# Altium schematic symbol library WR-PHD_Pin Header_2.00mm.SchLib: 63 symbols
Pins are listed as number, name and electrical type; pins without a type are passive.

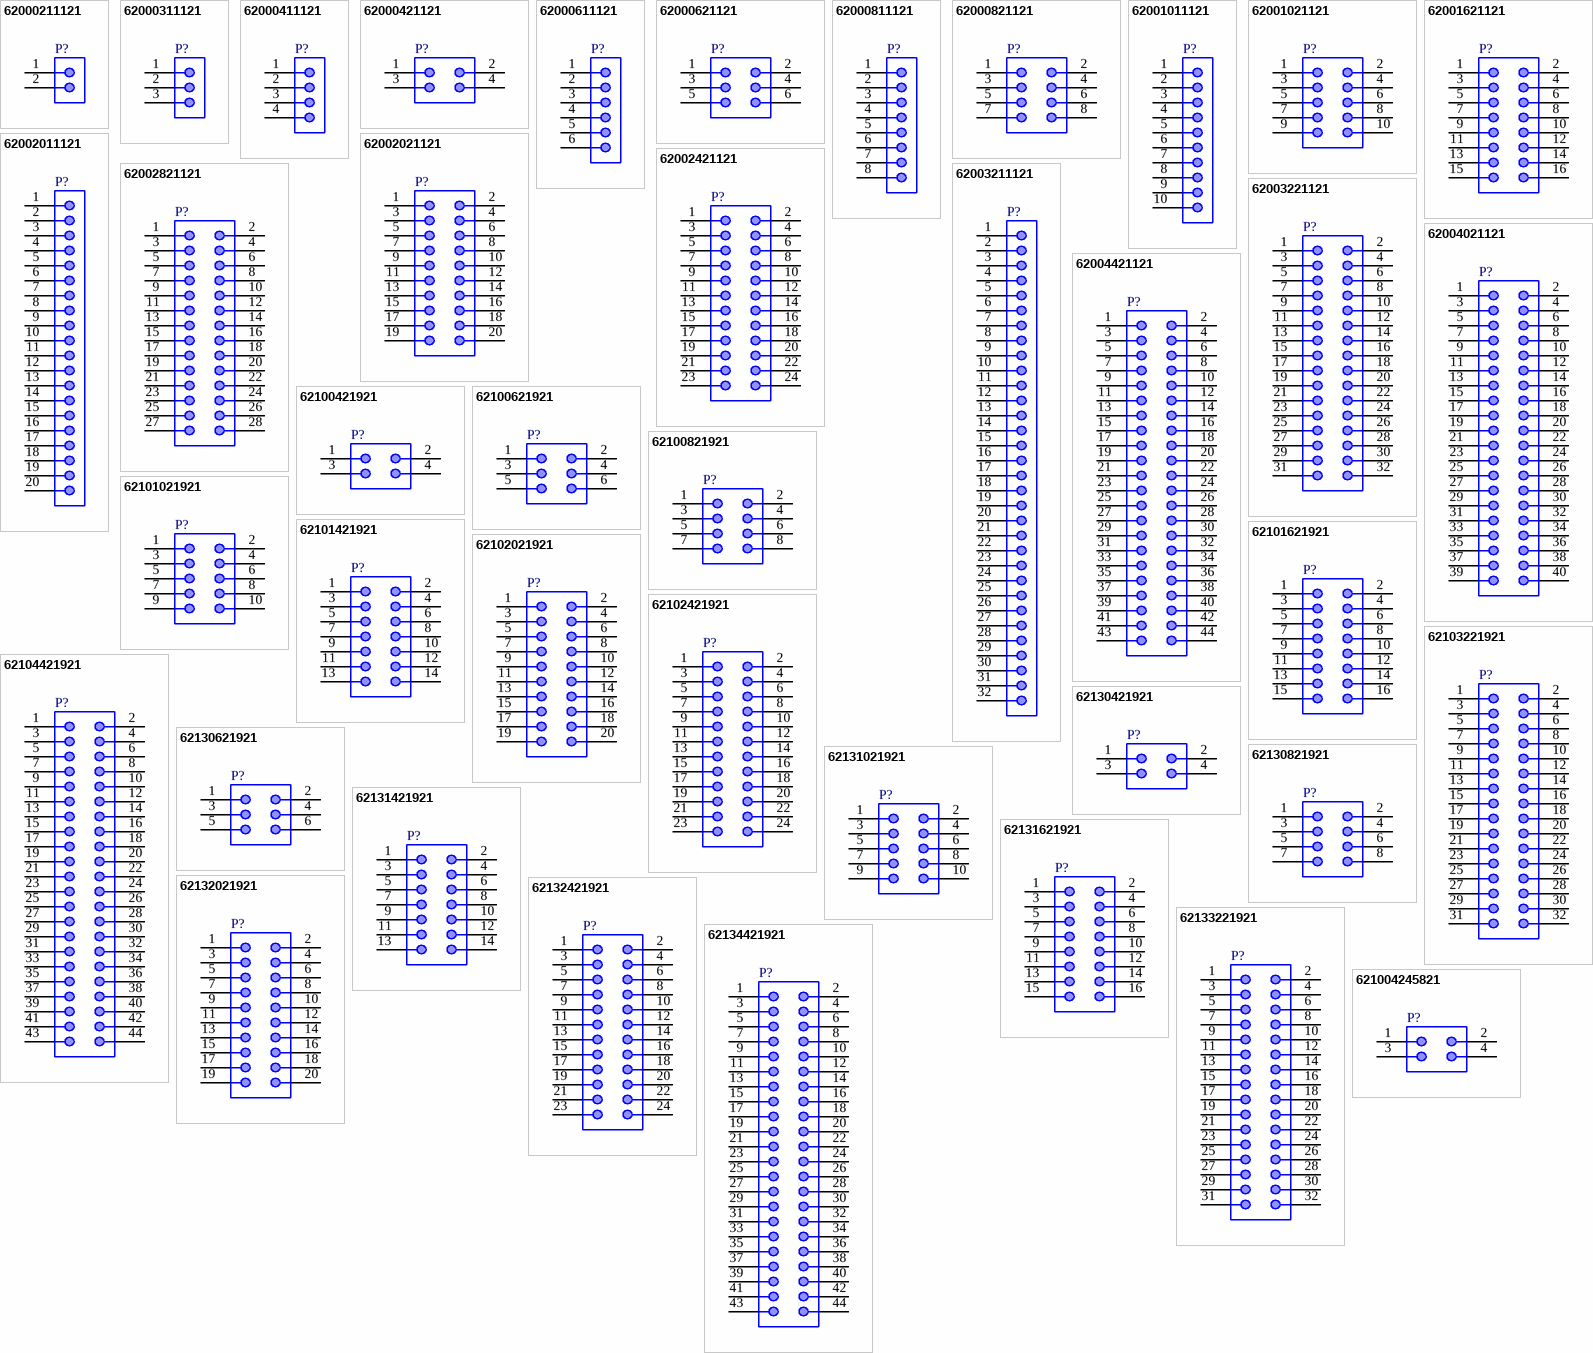
[diagram p0: symbols 62000211121 to 621004245821]

## 62000211121
designator P?
WR-PHD Pin Header, THT, pitch 2mm, Single Row, Vertical, 2p; Manufacturer: Wurth Elektronik; Manufacturer Part Number: 62000211121; Pin Number: 2; Rated Current: 2A; Working Voltage: 200VAC; Withstanding Voltage: 500VAC; Contact Resistance: 20mOhm; ComponentLink1Description: Manufacturer; ComponentLink1URL: http://www.we-online.de; ComponentLink2Description: Datasheet; ComponentLink2URL: https://www.we-online.com/catalog/datasheet/62000211121.pdf; Operating Temperature: -40 to +105degC; Published Date: May 2020; Pitch: 2mm; Mounting Technology: THT; Packaging: Bag; Gender: Pin Header; Row Number: Single; Orientation: Vertical
footprint 62000211121
pins: 1, 2

## 62000311121
designator P?
WR-PHD Pin Header, THT, pitch 2mm, Single Row, Vertical, 3p; Manufacturer: Wurth Elektronik; Manufacturer Part Number: 62000311121; Pin Number: 3; Rated Current: 2A; Working Voltage: 200VAC; Withstanding Voltage: 500VAC; Contact Resistance: 20mOhm; ComponentLink1Description: Manufacturer; ComponentLink1URL: http://www.we-online.de; ComponentLink2Description: Datasheet; ComponentLink2URL: https://www.we-online.com/catalog/datasheet/62000311121.pdf; Operating Temperature: -40 to +105degC; Published Date: May 2020; Pitch: 2mm; Mounting Technology: THT; Packaging: Bag; Gender: Pin Header; Row Number: Single; Orientation: Vertical
footprint 62000311121
pins: 1, 2, 3

## 62000411121
designator P?
WR-PHD Pin Header, THT, pitch 2mm, Single Row, Vertical, 4p; Manufacturer: Wurth Elektronik; Manufacturer Part Number: 62000411121; Pin Number: 4; Rated Current: 2A; Working Voltage: 200VAC; Withstanding Voltage: 500VAC; Contact Resistance: 20mOhm; ComponentLink1Description: Manufacturer; ComponentLink1URL: http://www.we-online.de; ComponentLink2Description: Datasheet; ComponentLink2URL: https://www.we-online.com/catalog/datasheet/62000411121.pdf; Operating Temperature: -40 to +105degC; Published Date: May 2020; Pitch: 2mm; Mounting Technology: THT; Packaging: Bag; Gender: Pin Header; Row Number: Single; Orientation: Vertical
footprint 62000411121
pins: 1, 2, 3, 4

## 62000421121
designator P?
WR-PHD Pin Header, THT, pitch 2mm, Dual Row, Vertical, 4p; Manufacturer: Wurth Elektronik; Manufacturer Part Number: 62000421121; Pin Number: 4; Rated Current: 2A; Working Voltage: 200VAC; Withstanding Voltage: 500VAC; Contact Resistance: 20mOhm; ComponentLink1Description: Manufacturer; ComponentLink1URL: http://www.we-online.de; ComponentLink2Description: Datasheet; ComponentLink2URL: https://www.we-online.com/catalog/datasheet/62000421121.pdf; Operating Temperature: -40 to +105degC; Published Date: May 2020; Pitch: 2mm; Mounting Technology: THT; Packaging: Bag; Gender: Pin Header; Row Number: Dual; Orientation: Vertical
footprint 62000421121
pins: 1, 2, 3, 4

## 62000611121
designator P?
WR-PHD Pin Header, THT, pitch 2mm, Single Row, Vertical, 6p; Manufacturer: Wurth Elektronik; Manufacturer Part Number: 62000611121; Pin Number: 6; Rated Current: 2A; Working Voltage: 200VAC; Withstanding Voltage: 500VAC; Contact Resistance: 20mOhm; ComponentLink1Description: Manufacturer; ComponentLink1URL: http://www.we-online.de; ComponentLink2Description: Datasheet; ComponentLink2URL: https://www.we-online.com/catalog/datasheet/62000611121.pdf; Operating Temperature: -40 to +105degC; Published Date: May 2020; Pitch: 2mm; Mounting Technology: THT; Packaging: Bag; Gender: Pin Header; Row Number: Single; Orientation: Vertical
footprint 62000611121
pins: 1, 2, 3, 4, 5, 6

## 62000621121
designator P?
WR-PHD Pin Header, THT, pitch 2mm, Dual Row, Vertical, 6p; Manufacturer: Wurth Elektronik; Manufacturer Part Number: 62000621121; Pin Number: 6; Rated Current: 2A; Working Voltage: 200VAC; Withstanding Voltage: 500VAC; Contact Resistance: 20mOhm; ComponentLink1Description: Manufacturer; ComponentLink1URL: http://www.we-online.de; ComponentLink2Description: Datasheet; ComponentLink2URL: https://www.we-online.com/catalog/datasheet/62000621121.pdf; Operating Temperature: -40 to +105degC; Published Date: May 2020; Pitch: 2mm; Mounting Technology: THT; Packaging: Bag; Gender: Pin Header; Row Number: Dual; Orientation: Vertical
footprint 62000621121
pins: 1, 2, 3, 4, 5, 6

## 62000811121
designator P?
WR-PHD Pin Header, THT, pitch 2mm, Single Row, Vertical, 8p; Manufacturer: Wurth Elektronik; Manufacturer Part Number: 62000811121; Pin Number: 8; Rated Current: 2A; Working Voltage: 200VAC; Withstanding Voltage: 500VAC; Contact Resistance: 20mOhm; ComponentLink1Description: Manufacturer; ComponentLink1URL: http://www.we-online.de; ComponentLink2Description: Datasheet; ComponentLink2URL: https://www.we-online.com/catalog/datasheet/62000811121.pdf; Operating Temperature: -40 to +105degC; Published Date: May 2020; Pitch: 2mm; Mounting Technology: THT; Packaging: Bag; Gender: Pin Header; Row Number: Single; Orientation: Vertical
footprint 62000811121
pins: 1, 2, 3, 4, 5, 6, 7, 8

## 62000821121
designator P?
WR-PHD Pin Header, THT, pitch 2mm, Dual Row, Vertical, 8p; Manufacturer: Wurth Elektronik; Manufacturer Part Number: 62000821121; Pin Number: 8; Rated Current: 2A; Working Voltage: 200VAC; Withstanding Voltage: 500VAC; Contact Resistance: 20mOhm; ComponentLink1Description: Manufacturer; ComponentLink1URL: http://www.we-online.de; ComponentLink2Description: Datasheet; ComponentLink2URL: https://www.we-online.com/catalog/datasheet/62000821121.pdf; Operating Temperature: -40 to +105degC; Published Date: May 2020; Pitch: 2mm; Mounting Technology: THT; Packaging: Bag; Gender: Pin Header; Row Number: Dual; Orientation: Vertical
footprint 62000821121
pins: 1, 2, 3, 4, 5, 6, 7, 8

## 62001011121
designator P?
WR-PHD Pin Header, THT, pitch 2mm, Single Row, Vertical, 10p; Manufacturer: Wurth Elektronik; Manufacturer Part Number: 62001011121; Pin Number: 10; Rated Current: 2A; Working Voltage: 200VAC; Withstanding Voltage: 500VAC; Contact Resistance: 20mOhm; ComponentLink1Description: Manufacturer; ComponentLink1URL: http://www.we-online.de; ComponentLink2Description: Datasheet; ComponentLink2URL: https://www.we-online.com/catalog/datasheet/62001011121.pdf; Operating Temperature: -40 to +105degC; Published Date: May 2020; Pitch: 2mm; Mounting Technology: THT; Packaging: Bag; Gender: Pin Header; Row Number: Single; Orientation: Vertical
footprint 62001011121
pins: 1, 2, 3, 4, 5, 6, 7, 8, 9, 10

## 62001021121
designator P?
WR-PHD Pin Header, THT, pitch 2mm, Dual Row, Vertical, 10p; Manufacturer: Wurth Elektronik; Manufacturer Part Number: 62001021121; Pin Number: 10; Rated Current: 2A; Working Voltage: 200VAC; Withstanding Voltage: 500VAC; Contact Resistance: 20mOhm; ComponentLink1Description: Manufacturer; ComponentLink1URL: http://www.we-online.de; ComponentLink2Description: Datasheet; ComponentLink2URL: https://www.we-online.com/catalog/datasheet/62001021121.pdf; Operating Temperature: -40 to +105degC; Published Date: May 2020; Pitch: 2mm; Mounting Technology: THT; Packaging: Bag; Gender: Pin Header; Row Number: Dual; Orientation: Vertical
footprint 62001021121
pins: 1, 2, 3, 4, 5, 6, 7, 8, 9, 10

## 62001621121
designator P?
WR-PHD Pin Header, THT, pitch 2mm, Dual Row, Vertical, 16p; Manufacturer: Wurth Elektronik; Manufacturer Part Number: 62001621121; Pin Number: 16; Rated Current: 2A; Working Voltage: 200VAC; Withstanding Voltage: 500VAC; Contact Resistance: 20mOhm; ComponentLink1Description: Manufacturer; ComponentLink1URL: http://www.we-online.de; ComponentLink2Description: Datasheet; ComponentLink2URL: https://www.we-online.com/catalog/datasheet/62001621121.pdf; Operating Temperature: -40 to +105degC; Published Date: May 2020; Pitch: 2mm; Mounting Technology: THT; Packaging: Bag; Gender: Pin Header; Row Number: Dual; Orientation: Vertical
footprint 62001621121
pins: 1, 2, 3, 4, 5, 6, 7, 8, 9, 10, 11, 12, 13, 14, 15, 16

## 62002011121
designator P?
WR-PHD Pin Header, THT, pitch 2mm, Single Row, Vertical, 20p; Manufacturer: Wurth Elektronik; Manufacturer Part Number: 62002011121; Pin Number: 20; Rated Current: 2A; Working Voltage: 200VAC; Withstanding Voltage: 500VAC; Contact Resistance: 20mOhm; ComponentLink1Description: Manufacturer; ComponentLink1URL: http://www.we-online.de; ComponentLink2Description: Datasheet; ComponentLink2URL: https://www.we-online.com/catalog/datasheet/62002011121.pdf; Operating Temperature: -40 to +105degC; Published Date: May 2020; Pitch: 2mm; Mounting Technology: THT; Packaging: Bag; Gender: Pin Header; Row Number: Single; Orientation: Vertical
footprint 62002011121
pins: 1, 2, 3, 4, 5, 6, 7, 8, 9, 10, 11, 12, 13, 14, 15, 16, 17, 18, 19, 20

## 62002021121
designator P?
WR-PHD Pin Header, THT, pitch 2mm, Dual Row, Vertical, 20p; Manufacturer: Wurth Elektronik; Manufacturer Part Number: 62002021121; Pin Number: 20; Rated Current: 2A; Working Voltage: 200VAC; Withstanding Voltage: 500VAC; Contact Resistance: 20mOhm; ComponentLink1Description: Manufacturer; ComponentLink1URL: http://www.we-online.de; ComponentLink2Description: Datasheet; ComponentLink2URL: https://www.we-online.com/catalog/datasheet/62002021121.pdf; Operating Temperature: -40 to +105degC; Published Date: May 2020; Pitch: 2mm; Mounting Technology: THT; Packaging: Bag; Gender: Pin Header; Row Number: Dual; Orientation: Vertical
footprint 62002021121
pins: 1, 2, 3, 4, 5, 6, 7, 8, 9, 10, 11, 12, 13, 14, 15, 16, 17, 18, 19, 20

## 62002421121
designator P?
WR-PHD Pin Header, THT, pitch 2mm, Dual Row, Vertical, 24p; Manufacturer: Wurth Elektronik; Manufacturer Part Number: 62002421121; Pin Number: 24; Rated Current: 2A; Working Voltage: 200VAC; Withstanding Voltage: 500VAC; Contact Resistance: 20mOhm; ComponentLink1Description: Manufacturer; ComponentLink1URL: http://www.we-online.de; ComponentLink2Description: Datasheet; ComponentLink2URL: https://www.we-online.com/catalog/datasheet/62002421121.pdf; Operating Temperature: -40 to +105degC; Published Date: May 2020; Pitch: 2mm; Mounting Technology: THT; Packaging: Bag; Gender: Pin Header; Row Number: Dual; Orientation: Vertical
footprint 62002421121
pins: 1, 2, 3, 4, 5, 6, 7, 8, 9, 10, 11, 12, 13, 14, 15, 16, 17, 18, 19, 20, 21, 22, 23, 24

## 62002821121
designator P?
WR-PHD Pin Header, THT, pitch 2mm, Dual Row, Vertical, 28p; Manufacturer: Wurth Elektronik; Manufacturer Part Number: 62002821121; Pin Number: 28; Rated Current: 2A; Working Voltage: 200VAC; Withstanding Voltage: 500VAC; Contact Resistance: 20mOhm; ComponentLink1Description: Manufacturer; ComponentLink1URL: http://www.we-online.de; ComponentLink2Description: Datasheet; ComponentLink2URL: https://www.we-online.com/catalog/datasheet/62002821121.pdf; Operating Temperature: -40 to +105degC; Published Date: May 2020; Pitch: 2mm; Mounting Technology: THT; Packaging: Bag; Gender: Pin Header; Row Number: Dual; Orientation: Vertical
footprint 62002821121
pins: 1, 2, 3, 4, 5, 6, 7, 8, 9, 10, 11, 12, 13, 14, 15, 16, 17, 18, 19, 20, 21, 22, 23, 24, 25, 26, 27, 28

## 62003211121
designator P?
WR-PHD Pin Header, THT, pitch 2mm, Single Row, Vertical, 32p; Manufacturer: Wurth Elektronik; Manufacturer Part Number: 62003211121; Pin Number: 32; Rated Current: 2A; Working Voltage: 200VAC; Withstanding Voltage: 500VAC; Contact Resistance: 20mOhm; ComponentLink1Description: Manufacturer; ComponentLink1URL: http://www.we-online.de; ComponentLink2Description: Datasheet; ComponentLink2URL: https://www.we-online.com/catalog/datasheet/62003211121.pdf; Operating Temperature: -40 to +105degC; Published Date: May 2020; Pitch: 2mm; Mounting Technology: THT; Packaging: Bag; Gender: Pin Header; Row Number: Single; Orientation: Vertical
footprint 62003211121
pins: 1, 2, 3, 4, 5, 6, 7, 8, 9, 10, 11, 12, 13, 14, 15, 16, 17, 18, 19, 20, 21, 22, 23, 24, 25, 26, 27, 28, 29, 30, 31, 32

## 62003221121
designator P?
WR-PHD Pin Header, THT, pitch 2mm, Dual Row, Vertical, 32p; Manufacturer: Wurth Elektronik; Manufacturer Part Number: 62003221121; Pin Number: 32; Rated Current: 2A; Working Voltage: 200VAC; Withstanding Voltage: 500VAC; Contact Resistance: 20mOhm; ComponentLink1Description: Manufacturer; ComponentLink1URL: http://www.we-online.de; ComponentLink2Description: Datasheet; ComponentLink2URL: https://www.we-online.com/catalog/datasheet/62003221121.pdf; Operating Temperature: -40 to +105degC; Published Date: May 2020; Pitch: 2mm; Mounting Technology: THT; Packaging: Bag; Gender: Pin Header; Row Number: Dual; Orientation: Vertical
footprint 62003221121
pins: 1, 2, 3, 4, 5, 6, 7, 8, 9, 10, 11, 12, 13, 14, 15, 16, 17, 18, 19, 20, 21, 22, 23, 24, 25, 26, 27, 28, 29, 30, 31, 32

## 62004021121
designator P?
WR-PHD Pin Header, THT, pitch 2mm, Dual Row, Vertical, 40p; Manufacturer: Wurth Elektronik; Manufacturer Part Number: 62004021121; Pin Number: 40; Rated Current: 2A; Working Voltage: 200VAC; Withstanding Voltage: 500VAC; Contact Resistance: 20mOhm; ComponentLink1Description: Manufacturer; ComponentLink1URL: http://www.we-online.de; ComponentLink2Description: Datasheet; ComponentLink2URL: https://www.we-online.com/catalog/datasheet/62004021121.pdf; Operating Temperature: -40 to +105degC; Published Date: May 2020; Pitch: 2mm; Mounting Technology: THT; Packaging: Bag; Gender: Pin Header; Row Number: Dual; Orientation: Vertical
footprint 62004021121
pins: 1, 2, 3, 4, 5, 6, 7, 8, 9, 10, 11, 12, 13, 14, 15, 16, 17, 18, 19, 20, 21, 22, 23, 24, 25, 26, 27, 28, 29, 30, 31, 32, 33, 34, 35, 36, 37, 38, 39, 40

## 62004421121
designator P?
WR-PHD Pin Header, THT, pitch 2mm, Dual Row, Vertical, 44p; Manufacturer: Wurth Elektronik; Manufacturer Part Number: 62004421121; Pin Number: 44; Rated Current: 2A; Working Voltage: 200VAC; Withstanding Voltage: 500VAC; Contact Resistance: 20mOhm; ComponentLink1Description: Manufacturer; ComponentLink1URL: http://www.we-online.de; ComponentLink2Description: Datasheet; ComponentLink2URL: https://www.we-online.com/catalog/datasheet/62004421121.pdf; Operating Temperature: -40 to +105degC; Published Date: May 2020; Pitch: 2mm; Mounting Technology: THT; Packaging: Bag; Gender: Pin Header; Row Number: Dual; Orientation: Vertical
footprint 62004421121
pins: 1, 2, 3, 4, 5, 6, 7, 8, 9, 10, 11, 12, 13, 14, 15, 16, 17, 18, 19, 20, 21, 22, 23, 24, 25, 26, 27, 28, 29, 30, 31, 32, 33, 34, 35, 36, 37, 38, 39, 40, 41, 42, 43, 44

## 62100421921
designator P?
WR-PHD Pin Header, SMT, pitch 2mm, Dual Row, Vertical, 4p; Manufacturer: Wurth Elektronik; Manufacturer Part Number: 62100421921; Pin Number: 4; Rated Current: 2A; Working Voltage: 200VAC; Withstanding Voltage: 500VAC; Contact Resistance: 20mOhm; ComponentLink1Description: Manufacturer; ComponentLink1URL: http://www.we-online.de; ComponentLink2Description: Datasheet; ComponentLink2URL: https://www.we-online.com/catalog/datasheet/62100421921.pdf; Operating Temperature: -40 to +105degC; Published Date: May 2020; Pitch: 2mm; Mounting Technology: SMT; Packaging: Tube; Gender: Pin Header; Row Number: Dual; Orientation: Vertical
footprint 62100421921
pins: 1, 2, 3, 4

## 62100621921
designator P?
WR-PHD Pin Header, SMT, pitch 2mm, Dual Row, Vertical, 6p; Manufacturer: Wurth Elektronik; Manufacturer Part Number: 62100621921; Pin Number: 6; Rated Current: 2A; Working Voltage: 200VAC; Withstanding Voltage: 500VAC; Contact Resistance: 20mOhm; ComponentLink1Description: Manufacturer; ComponentLink1URL: http://www.we-online.de; ComponentLink2Description: Datasheet; ComponentLink2URL: https://www.we-online.com/catalog/datasheet/62100621921.pdf; Operating Temperature: -40 to +105degC; Published Date: May 2020; Pitch: 2mm; Mounting Technology: SMT; Packaging: Tube; Gender: Pin Header; Row Number: Dual; Orientation: Vertical
footprint 62100621921
pins: 1, 2, 3, 4, 5, 6

## 62100821921
designator P?
WR-PHD Pin Header, SMT, pitch 2mm, Dual Row, Vertical, 8p; Manufacturer: Wurth Elektronik; Manufacturer Part Number: 62100821921; Pin Number: 8; Rated Current: 2A; Working Voltage: 200VAC; Withstanding Voltage: 500VAC; Contact Resistance: 20mOhm; ComponentLink1Description: Manufacturer; ComponentLink1URL: http://www.we-online.de; ComponentLink2Description: Datasheet; ComponentLink2URL: https://www.we-online.com/catalog/datasheet/62100821921.pdf; Operating Temperature: -40 to +105degC; Published Date: May 2020; Pitch: 2mm; Mounting Technology: SMT; Packaging: Tube; Gender: Pin Header; Row Number: Dual; Orientation: Vertical
footprint 62100821921
pins: 1, 2, 3, 4, 5, 6, 7, 8

## 62101021921
designator P?
WR-PHD Pin Header, SMT, pitch 2mm, Dual Row, Vertical, 10p; Manufacturer: Wurth Elektronik; Manufacturer Part Number: 62101021921; Pin Number: 10; Rated Current: 2A; Working Voltage: 200VAC; Withstanding Voltage: 500VAC; Contact Resistance: 20mOhm; ComponentLink1Description: Manufacturer; ComponentLink1URL: http://www.we-online.de; ComponentLink2Description: Datasheet; ComponentLink2URL: https://www.we-online.com/catalog/datasheet/62101021921.pdf; Operating Temperature: -40 to +105degC; Published Date: May 2020; Pitch: 2mm; Mounting Technology: SMT; Packaging: Tube; Gender: Pin Header; Row Number: Dual; Orientation: Vertical
footprint 62101021921
pins: 1, 2, 3, 4, 5, 6, 7, 8, 9, 10

## 62101421921
designator P?
WR-PHD Pin Header, SMT, pitch 2mm, Dual Row, Vertical, 14p; Manufacturer: Wurth Elektronik; Manufacturer Part Number: 62101421921; Pin Number: 14; Rated Current: 2A; Working Voltage: 200VAC; Withstanding Voltage: 500VAC; Contact Resistance: 20mOhm; ComponentLink1Description: Manufacturer; ComponentLink1URL: http://www.we-online.de; ComponentLink2Description: Datasheet; ComponentLink2URL: https://www.we-online.com/catalog/datasheet/62101421921.pdf; Operating Temperature: -40 to +105degC; Published Date: May 2020; Pitch: 2mm; Mounting Technology: SMT; Packaging: Tube; Gender: Pin Header; Row Number: Dual; Orientation: Vertical
footprint 62101421921
pins: 1, 2, 3, 4, 5, 6, 7, 8, 9, 10, 11, 12, 13, 14

## 62101621921
designator P?
WR-PHD Pin Header, SMT, pitch 2mm, Dual Row, Vertical, 16p; Manufacturer: Wurth Elektronik; Manufacturer Part Number: 62101621921; Pin Number: 16; Rated Current: 2A; Working Voltage: 200VAC; Withstanding Voltage: 500VAC; Contact Resistance: 20mOhm; ComponentLink1Description: Manufacturer; ComponentLink1URL: http://www.we-online.de; ComponentLink2Description: Datasheet; ComponentLink2URL: https://www.we-online.com/catalog/datasheet/62101621921.pdf; Operating Temperature: -40 to +105degC; Published Date: May 2020; Pitch: 2mm; Mounting Technology: SMT; Packaging: Tube; Gender: Pin Header; Row Number: Dual; Orientation: Vertical
footprint 62101621921
pins: 1, 2, 3, 4, 5, 6, 7, 8, 9, 10, 11, 12, 13, 14, 15, 16

## 62102021921
designator P?
WR-PHD Pin Header, SMT, pitch 2mm, Dual Row, Vertical, 20p; Manufacturer: Wurth Elektronik; Manufacturer Part Number: 62102021921; Pin Number: 20; Rated Current: 2A; Working Voltage: 200VAC; Withstanding Voltage: 500VAC; Contact Resistance: 20mOhm; ComponentLink1Description: Manufacturer; ComponentLink1URL: http://www.we-online.de; ComponentLink2Description: Datasheet; ComponentLink2URL: https://www.we-online.com/catalog/datasheet/62102021921.pdf; Operating Temperature: -40 to +105degC; Published Date: May 2020; Pitch: 2mm; Mounting Technology: SMT; Packaging: Tube; Gender: Pin Header; Row Number: Dual; Orientation: Vertical
footprint 62102021921
pins: 1, 2, 3, 4, 5, 6, 7, 8, 9, 10, 11, 12, 13, 14, 15, 16, 17, 18, 19, 20

## 62102421921
designator P?
WR-PHD Pin Header, SMT, pitch 2mm, Dual Row, Vertical, 24p; Manufacturer: Wurth Elektronik; Manufacturer Part Number: 62102421921; Pin Number: 24; Rated Current: 2A; Working Voltage: 200VAC; Withstanding Voltage: 500VAC; Contact Resistance: 20mOhm; ComponentLink1Description: Manufacturer; ComponentLink1URL: http://www.we-online.de; ComponentLink2Description: Datasheet; ComponentLink2URL: https://www.we-online.com/catalog/datasheet/62102421921.pdf; Operating Temperature: -40 to +105degC; Published Date: May 2020; Pitch: 2mm; Mounting Technology: SMT; Packaging: Tube; Gender: Pin Header; Row Number: Dual; Orientation: Vertical
footprint 62102421921
pins: 1, 2, 3, 4, 5, 6, 7, 8, 9, 10, 11, 12, 13, 14, 15, 16, 17, 18, 19, 20, 21, 22, 23, 24

## 62103221921
designator P?
WR-PHD Pin Header, SMT, pitch 2mm, Dual Row, Vertical, 32p; Manufacturer: Wurth Elektronik; Manufacturer Part Number: 62103221921; Pin Number: 32; Rated Current: 2A; Working Voltage: 200VAC; Withstanding Voltage: 500VAC; Contact Resistance: 20mOhm; ComponentLink1Description: Manufacturer; ComponentLink1URL: http://www.we-online.de; ComponentLink2Description: Datasheet; ComponentLink2URL: https://www.we-online.com/catalog/datasheet/62103221921.pdf; Operating Temperature: -40 to +105degC; Published Date: May 2020; Pitch: 2mm; Mounting Technology: SMT; Packaging: Tube; Gender: Pin Header; Row Number: Dual; Orientation: Vertical
footprint 62103221921
pins: 1, 2, 3, 4, 5, 6, 7, 8, 9, 10, 11, 12, 13, 14, 15, 16, 17, 18, 19, 20, 21, 22, 23, 24, 25, 26, 27, 28, 29, 30, 31, 32

## 62104421921
designator P?
WR-PHD Pin Header, SMT, pitch 2mm, Dual Row, Vertical, 44p; Manufacturer: Wurth Elektronik; Manufacturer Part Number: 62104421921; Pin Number: 44; Rated Current: 2A; Working Voltage: 200VAC; Withstanding Voltage: 500VAC; Contact Resistance: 20mOhm; ComponentLink1Description: Manufacturer; ComponentLink1URL: http://www.we-online.de; ComponentLink2Description: Datasheet; ComponentLink2URL: https://www.we-online.com/catalog/datasheet/62104421921.pdf; Operating Temperature: -40 to +105degC; Published Date: May 2020; Pitch: 2mm; Mounting Technology: SMT; Packaging: Tube; Gender: Pin Header; Row Number: Dual; Orientation: Vertical
footprint 62104421921
pins: 1, 2, 3, 4, 5, 6, 7, 8, 9, 10, 11, 12, 13, 14, 15, 16, 17, 18, 19, 20, 21, 22, 23, 24, 25, 26, 27, 28, 29, 30, 31, 32, 33, 34, 35, 36, 37, 38, 39, 40, 41, 42, 43, 44

## 62130421921
designator P?
WR-PHD Pin Header, SMT, pitch 2mm, Dual Row, Vertical, 4p; Manufacturer: Wurth Elektronik; Manufacturer Part Number: 62130421921; Pin Number: 4; Rated Current: 2A; Working Voltage: 200VAC; Withstanding Voltage: 500VAC; Contact Resistance: 20mOhm; ComponentLink1Description: Manufacturer; ComponentLink1URL: http://www.we-online.de; ComponentLink2Description: Datasheet; ComponentLink2URL: https://www.we-online.com/catalog/datasheet/62130421921.pdf; Operating Temperature: -40 to +105degC; Published Date: May 2020; Pitch: 2mm; Mounting Technology: SMT; Packaging: Tape and Reel; Gender: Pin Header; Row Number: Dual; Orientation: Vertical
footprint 62130421921
pins: 1, 2, 3, 4

## 62130621921
designator P?
WR-PHD Pin Header, SMT, pitch 2mm, Dual Row, Vertical, 6p; Manufacturer: Wurth Elektronik; Manufacturer Part Number: 62130621921; Pin Number: 6; Rated Current: 2A; Working Voltage: 200VAC; Withstanding Voltage: 500VAC; Contact Resistance: 20mOhm; ComponentLink1Description: Manufacturer; ComponentLink1URL: http://www.we-online.de; ComponentLink2Description: Datasheet; ComponentLink2URL: https://www.we-online.com/catalog/datasheet/62130621921.pdf; Operating Temperature: -40 to +105degC; Published Date: May 2020; Pitch: 2mm; Mounting Technology: SMT; Packaging: Tape and Reel; Gender: Pin Header; Row Number: Dual; Orientation: Vertical
footprint 62130621921
pins: 1, 2, 3, 4, 5, 6

## 62130821921
designator P?
WR-PHD Pin Header, SMT, pitch 2mm, Dual Row, Vertical, 8p; Manufacturer: Wurth Elektronik; Manufacturer Part Number: 62130821921; Pin Number: 8; Rated Current: 2A; Working Voltage: 200VAC; Withstanding Voltage: 500VAC; Contact Resistance: 20mOhm; ComponentLink1Description: Manufacturer; ComponentLink1URL: http://www.we-online.de; ComponentLink2Description: Datasheet; ComponentLink2URL: https://www.we-online.com/catalog/datasheet/62130821921.pdf; Operating Temperature: -40 to +105degC; Published Date: May 2020; Pitch: 2mm; Mounting Technology: SMT; Packaging: Tape and Reel; Gender: Pin Header; Row Number: Dual; Orientation: Vertical
footprint 62130821921
pins: 1, 2, 3, 4, 5, 6, 7, 8

## 62131021921
designator P?
WR-PHD Pin Header, SMT, pitch 2mm, Dual Row, Vertical, 10p; Manufacturer: Wurth Elektronik; Manufacturer Part Number: 62131021921; Pin Number: 10; Rated Current: 2A; Working Voltage: 200VAC; Withstanding Voltage: 500VAC; Contact Resistance: 20mOhm; ComponentLink1Description: Manufacturer; ComponentLink1URL: http://www.we-online.de; ComponentLink2Description: Datasheet; ComponentLink2URL: https://www.we-online.com/catalog/datasheet/62131021921.pdf; Operating Temperature: -40 to +105degC; Published Date: May 2020; Pitch: 2mm; Mounting Technology: SMT; Packaging: Tape and Reel; Gender: Pin Header; Row Number: Dual; Orientation: Vertical
footprint 62131021921
pins: 1, 2, 3, 4, 5, 6, 7, 8, 9, 10

## 62131421921
designator P?
WR-PHD Pin Header, SMT, pitch 2mm, Dual Row, Vertical, 14p; Manufacturer: Wurth Elektronik; Manufacturer Part Number: 62131421921; Pin Number: 14; Rated Current: 2A; Working Voltage: 200VAC; Withstanding Voltage: 500VAC; Contact Resistance: 20mOhm; ComponentLink1Description: Manufacturer; ComponentLink1URL: http://www.we-online.de; ComponentLink2Description: Datasheet; ComponentLink2URL: https://www.we-online.com/catalog/datasheet/62131421921.pdf; Operating Temperature: -40 to +105degC; Published Date: May 2020; Pitch: 2mm; Mounting Technology: SMT; Packaging: Tape and Reel; Gender: Pin Header; Row Number: Dual; Orientation: Vertical
footprint 62131421921
pins: 1, 2, 3, 4, 5, 6, 7, 8, 9, 10, 11, 12, 13, 14

## 62131621921
designator P?
WR-PHD Pin Header, SMT, pitch 2mm, Dual Row, Vertical, 16p; Manufacturer: Wurth Elektronik; Manufacturer Part Number: 62131621921; Pin Number: 16; Rated Current: 2A; Working Voltage: 200VAC; Withstanding Voltage: 500VAC; Contact Resistance: 20mOhm; ComponentLink1Description: Manufacturer; ComponentLink1URL: http://www.we-online.de; ComponentLink2Description: Datasheet; ComponentLink2URL: https://www.we-online.com/catalog/datasheet/62131621921.pdf; Operating Temperature: -40 to +105degC; Published Date: May 2020; Pitch: 2mm; Mounting Technology: SMT; Packaging: Tape and Reel; Gender: Pin Header; Row Number: Dual; Orientation: Vertical
footprint 62131621921
pins: 1, 2, 3, 4, 5, 6, 7, 8, 9, 10, 11, 12, 13, 14, 15, 16

## 62132021921
designator P?
WR-PHD Pin Header, SMT, pitch 2mm, Dual Row, Vertical, 20p; Manufacturer: Wurth Elektronik; Manufacturer Part Number: 62132021921; Pin Number: 20; Rated Current: 2A; Working Voltage: 200VAC; Withstanding Voltage: 500VAC; Contact Resistance: 20mOhm; ComponentLink1Description: Manufacturer; ComponentLink1URL: http://www.we-online.de; ComponentLink2Description: Datasheet; ComponentLink2URL: https://www.we-online.com/catalog/datasheet/62132021921.pdf; Operating Temperature: -40 to +105degC; Published Date: May 2020; Pitch: 2mm; Mounting Technology: SMT; Packaging: Tape and Reel; Gender: Pin Header; Row Number: Dual; Orientation: Vertical
footprint 62132021921
pins: 1, 2, 3, 4, 5, 6, 7, 8, 9, 10, 11, 12, 13, 14, 15, 16, 17, 18, 19, 20

## 62132421921
designator P?
WR-PHD Pin Header, SMT, pitch 2mm, Dual Row, Vertical, 24p; Manufacturer: Wurth Elektronik; Manufacturer Part Number: 62132421921; Pin Number: 24; Rated Current: 2A; Working Voltage: 200VAC; Withstanding Voltage: 500VAC; Contact Resistance: 20mOhm; ComponentLink1Description: Manufacturer; ComponentLink1URL: http://www.we-online.de; ComponentLink2Description: Datasheet; ComponentLink2URL: https://www.we-online.com/catalog/datasheet/62132421921.pdf; Operating Temperature: -40 to +105degC; Published Date: May 2020; Pitch: 2mm; Mounting Technology: SMT; Packaging: Tape and Reel; Gender: Pin Header; Row Number: Dual; Orientation: Vertical
footprint 62132421921
pins: 1, 2, 3, 4, 5, 6, 7, 8, 9, 10, 11, 12, 13, 14, 15, 16, 17, 18, 19, 20, 21, 22, 23, 24

## 62133221921
designator P?
WR-PHD Pin Header, SMT, pitch 2mm, Dual Row, Vertical, 32p; Manufacturer: Wurth Elektronik; Manufacturer Part Number: 62133221921; Pin Number: 32; Rated Current: 2A; Working Voltage: 200VAC; Withstanding Voltage: 500VAC; Contact Resistance: 20mOhm; ComponentLink1Description: Manufacturer; ComponentLink1URL: http://www.we-online.de; ComponentLink2Description: Datasheet; ComponentLink2URL: https://www.we-online.com/catalog/datasheet/62133221921.pdf; Operating Temperature: -40 to +105degC; Published Date: May 2020; Pitch: 2mm; Mounting Technology: SMT; Packaging: Tape and Reel; Gender: Pin Header; Row Number: Dual; Orientation: Vertical
footprint 62133221921
pins: 1, 2, 3, 4, 5, 6, 7, 8, 9, 10, 11, 12, 13, 14, 15, 16, 17, 18, 19, 20, 21, 22, 23, 24, 25, 26, 27, 28, 29, 30, 31, 32

## 62134421921
designator P?
WR-PHD Pin Header, SMT, pitch 2mm, Dual Row, Vertical, 44p; Manufacturer: Wurth Elektronik; Manufacturer Part Number: 62134421921; Pin Number: 44; Rated Current: 2A; Working Voltage: 200VAC; Withstanding Voltage: 500VAC; Contact Resistance: 20mOhm; ComponentLink1Description: Manufacturer; ComponentLink1URL: http://www.we-online.de; ComponentLink2Description: Datasheet; ComponentLink2URL: https://www.we-online.com/catalog/datasheet/62134421921.pdf; Operating Temperature: -40 to +105degC; Published Date: May 2020; Pitch: 2mm; Mounting Technology: SMT; Packaging: Tape and Reel; Gender: Pin Header; Row Number: Dual; Orientation: Vertical
footprint 62134421921
pins: 1, 2, 3, 4, 5, 6, 7, 8, 9, 10, 11, 12, 13, 14, 15, 16, 17, 18, 19, 20, 21, 22, 23, 24, 25, 26, 27, 28, 29, 30, 31, 32, 33, 34, 35, 36, 37, 38, 39, 40, 41, 42, 43, 44

## 621004245821
designator P?
WR-PHD Pin Header, SMT, pitch 2mm, Dual Row, Vertical, 4p; Manufacturer: Wurth Elektronik; Manufacturer Part Number: 621004245821; Pin Number: 4; Rated Current: 2A; Working Voltage: 200VAC; Withstanding Voltage: 500VAC; Contact Resistance: 20mOhm; ComponentLink1Description: Manufacturer; ComponentLink1URL: http://www.we-online.de; ComponentLink2Description: Datasheet; ComponentLink2URL: https://www.we-online.com/catalog/datasheet/621004245821.pdf; Operating Temperature: -40 to +105degC; Published Date: May 2020; Pitch: 2mm; Mounting Technology: SMT; Packaging: Tube; Gender: Pin Header; Row Number: Dual; Orientation: Vertical
footprint 621004245821
pins: 1, 2, 3, 4

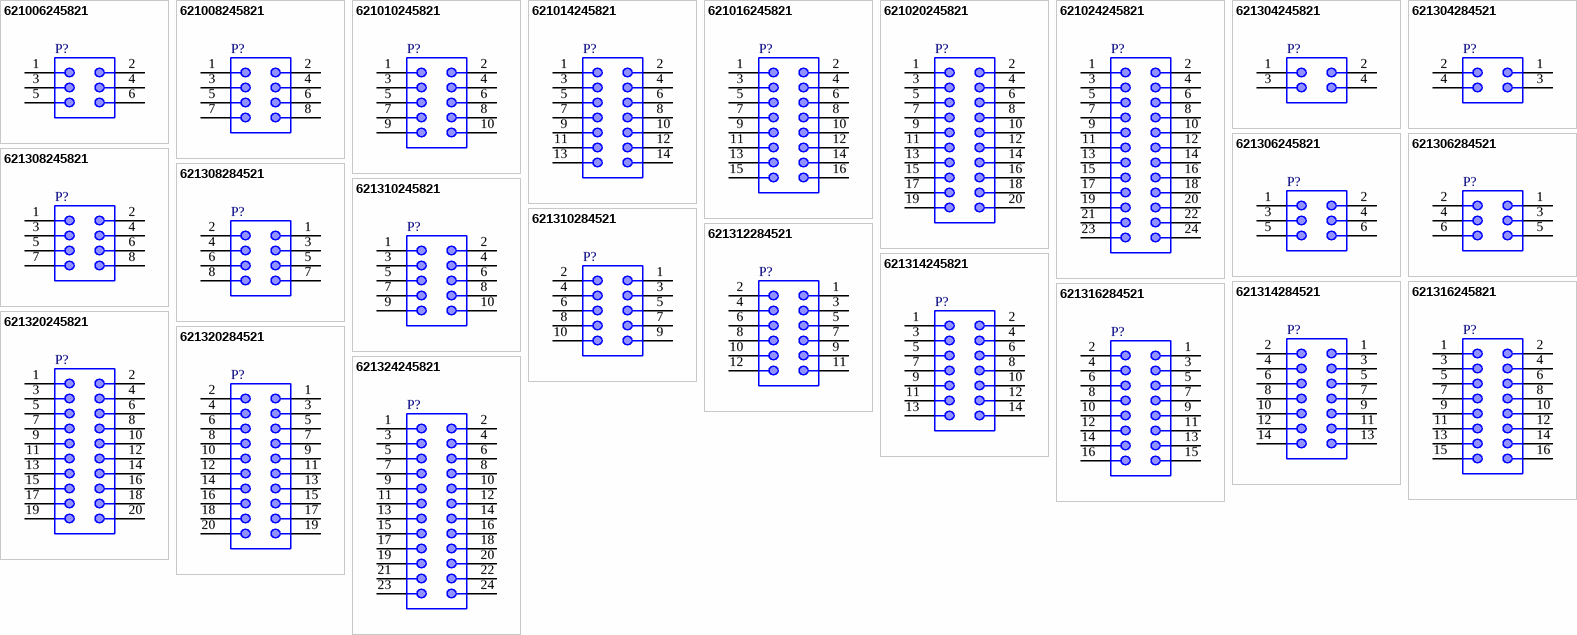
[diagram p1: symbols 621006245821 to 621324245821]

## 621006245821
designator P?
WR-PHD Pin Header, SMT, pitch 2mm, Dual Row, Vertical, 6p; Manufacturer: Wurth Elektronik; Manufacturer Part Number: 621006245821; Pin Number: 6; Rated Current: 2A; Working Voltage: 200VAC; Withstanding Voltage: 500VAC; Contact Resistance: 20mOhm; ComponentLink1Description: Manufacturer; ComponentLink1URL: http://www.we-online.de; ComponentLink2Description: Datasheet; ComponentLink2URL: https://www.we-online.com/catalog/datasheet/621006245821.pdf; Operating Temperature: -40 to +105degC; Published Date: May 2020; Pitch: 2mm; Mounting Technology: SMT; Packaging: Tube; Gender: Pin Header; Row Number: Dual; Orientation: Vertical
footprint 621006245821
pins: 1, 2, 3, 4, 5, 6

## 621008245821
designator P?
WR-PHD Pin Header, SMT, pitch 2mm, Dual Row, Vertical, 8p; Manufacturer: Wurth Elektronik; Manufacturer Part Number: 621008245821; Pin Number: 8; Rated Current: 2A; Working Voltage: 200VAC; Withstanding Voltage: 500VAC; Contact Resistance: 20mOhm; ComponentLink1Description: Manufacturer; ComponentLink1URL: http://www.we-online.de; ComponentLink2Description: Datasheet; ComponentLink2URL: https://www.we-online.com/catalog/datasheet/621008245821.pdf; Operating Temperature: -40 to +105degC; Published Date: May 2020; Pitch: 2mm; Mounting Technology: SMT; Packaging: Tube; Gender: Pin Header; Row Number: Dual; Orientation: Vertical
footprint 621008245821
pins: 1, 2, 3, 4, 5, 6, 7, 8

## 621010245821
designator P?
WR-PHD Pin Header, SMT, pitch 2mm, Dual Row, Vertical, 10p; Manufacturer: Wurth Elektronik; Manufacturer Part Number: 621010245821; Pin Number: 10; Rated Current: 2A; Working Voltage: 200VAC; Withstanding Voltage: 500VAC; Contact Resistance: 20mOhm; ComponentLink1Description: Manufacturer; ComponentLink1URL: http://www.we-online.de; ComponentLink2Description: Datasheet; ComponentLink2URL: https://www.we-online.com/catalog/datasheet/621010245821.pdf; Operating Temperature: -40 to +105degC; Published Date: May 2020; Pitch: 2mm; Mounting Technology: SMT; Packaging: Tube; Gender: Pin Header; Row Number: Dual; Orientation: Vertical
footprint 621010245821
pins: 1, 2, 3, 4, 5, 6, 7, 8, 9, 10

## 621014245821
designator P?
WR-PHD Pin Header, SMT, pitch 2mm, Dual Row, Vertical, 14p; Manufacturer: Wurth Elektronik; Manufacturer Part Number: 621014245821; Pin Number: 14; Rated Current: 2A; Working Voltage: 200VAC; Withstanding Voltage: 500VAC; Contact Resistance: 20mOhm; ComponentLink1Description: Manufacturer; ComponentLink1URL: http://www.we-online.de; ComponentLink2Description: Datasheet; ComponentLink2URL: https://www.we-online.com/catalog/datasheet/621014245821.pdf; Operating Temperature: -40 to +105degC; Published Date: May 2020; Pitch: 2mm; Mounting Technology: SMT; Packaging: Tube; Gender: Pin Header; Row Number: Dual; Orientation: Vertical
footprint 621014245821
pins: 1, 2, 3, 4, 5, 6, 7, 8, 9, 10, 11, 12, 13, 14

## 621016245821
designator P?
WR-PHD Pin Header, SMT, pitch 2mm, Dual Row, Vertical, 16p; Manufacturer: Wurth Elektronik; Manufacturer Part Number: 621016245821; Pin Number: 16; Rated Current: 2A; Working Voltage: 200VAC; Withstanding Voltage: 500VAC; Contact Resistance: 20mOhm; ComponentLink1Description: Manufacturer; ComponentLink1URL: http://www.we-online.de; ComponentLink2Description: Datasheet; ComponentLink2URL: https://www.we-online.com/catalog/datasheet/621016245821.pdf; Operating Temperature: -40 to +105degC; Published Date: May 2020; Pitch: 2mm; Mounting Technology: SMT; Packaging: Tube; Gender: Pin Header; Row Number: Dual; Orientation: Vertical
footprint 621016245821
pins: 1, 2, 3, 4, 5, 6, 7, 8, 9, 10, 11, 12, 13, 14, 15, 16

## 621020245821
designator P?
WR-PHD Pin Header, SMT, pitch 2mm, Dual Row, Vertical, 20p; Manufacturer: Wurth Elektronik; Manufacturer Part Number: 621020245821; Pin Number: 20; Rated Current: 2A; Working Voltage: 200VAC; Withstanding Voltage: 500VAC; Contact Resistance: 20mOhm; ComponentLink1Description: Manufacturer; ComponentLink1URL: http://www.we-online.de; ComponentLink2Description: Datasheet; ComponentLink2URL: https://www.we-online.com/catalog/datasheet/621020245821.pdf; Operating Temperature: -40 to +105degC; Published Date: May 2020; Pitch: 2mm; Mounting Technology: SMT; Packaging: Tube; Gender: Pin Header; Row Number: Dual; Orientation: Vertical
footprint 621020245821
pins: 1, 2, 3, 4, 5, 6, 7, 8, 9, 10, 11, 12, 13, 14, 15, 16, 17, 18, 19, 20

## 621024245821
designator P?
WR-PHD Pin Header, SMT, pitch 2mm, Dual Row, Vertical, 24p; Manufacturer: Wurth Elektronik; Manufacturer Part Number: 621024245821; Pin Number: 24; Rated Current: 2A; Working Voltage: 200VAC; Withstanding Voltage: 500VAC; Contact Resistance: 20mOhm; ComponentLink1Description: Manufacturer; ComponentLink1URL: http://www.we-online.de; ComponentLink2Description: Datasheet; ComponentLink2URL: https://www.we-online.com/catalog/datasheet/621024245821.pdf; Operating Temperature: -40 to +105degC; Published Date: May 2020; Pitch: 2mm; Mounting Technology: SMT; Packaging: Tube; Gender: Pin Header; Row Number: Dual; Orientation: Vertical
footprint 621024245821
pins: 1, 2, 3, 4, 5, 6, 7, 8, 9, 10, 11, 12, 13, 14, 15, 16, 17, 18, 19, 20, 21, 22, 23, 24

## 621304245821
designator P?
WR-PHD Pin Header, SMT, pitch 2mm, Dual Row, Vertical, 4p; Manufacturer: Wurth Elektronik; Manufacturer Part Number: 621304245821; Pin Number: 4; Rated Current: 2A; Working Voltage: 200VAC; Withstanding Voltage: 500VAC; Contact Resistance: 20mOhm; ComponentLink1Description: Manufacturer; ComponentLink1URL: http://www.we-online.de; ComponentLink2Description: Datasheet; ComponentLink2URL: https://www.we-online.com/catalog/datasheet/621304245821.pdf; Operating Temperature: -40 to +105degC; Published Date: May 2020; Pitch: 2mm; Mounting Technology: SMT; Packaging: Tape and Reel; Gender: Pin Header; Row Number: Dual; Orientation: Vertical
footprint 621304245821
pins: 1, 2, 3, 4

## 621304284521
designator P?
WR-PHD Pin Header, SMT, pitch 2mm, Dual Row, Angled, 4p; Manufacturer: Wurth Elektronik; Manufacturer Part Number: 621304284521; Pin Number: 4; Rated Current: 2A; Working Voltage: 200VAC; Withstanding Voltage: 500VAC; Contact Resistance: 20mOhm; ComponentLink1Description: Manufacturer; ComponentLink1URL: http://www.we-online.de; ComponentLink2Description: Datasheet; ComponentLink2URL: https://www.we-online.com/catalog/datasheet/621304284521.pdf; Operating Temperature: -40 to +105degC; Published Date: May 2020; Pitch: 2mm; Mounting Technology: SMT; Packaging: Tape and Reel; Gender: Pin Header; Row Number: Dual; Orientation: Angled
footprint 621304284521
pins: 1, 2, 3, 4

## 621306245821
designator P?
WR-PHD Pin Header, SMT, pitch 2mm, Dual Row, Vertical, 6p; Manufacturer: Wurth Elektronik; Manufacturer Part Number: 621306245821; Pin Number: 6; Rated Current: 2A; Working Voltage: 200VAC; Withstanding Voltage: 500VAC; Contact Resistance: 20mOhm; ComponentLink1Description: Manufacturer; ComponentLink1URL: http://www.we-online.de; ComponentLink2Description: Datasheet; ComponentLink2URL: https://www.we-online.com/catalog/datasheet/621306245821.pdf; Operating Temperature: -40 to +105degC; Published Date: May 2020; Pitch: 2mm; Mounting Technology: SMT; Packaging: Tape and Reel; Gender: Pin Header; Row Number: Dual; Orientation: Vertical
footprint 621306245821
pins: 1, 2, 3, 4, 5, 6

## 621306284521
designator P?
WR-PHD Pin Header, SMT, pitch 2mm, Dual Row, Angled, 6p; Manufacturer: Wurth Elektronik; Manufacturer Part Number: 621306284521; Pin Number: 6; Rated Current: 2A; Working Voltage: 200VAC; Withstanding Voltage: 500VAC; Contact Resistance: 20mOhm; ComponentLink1Description: Manufacturer; ComponentLink1URL: http://www.we-online.de; ComponentLink2Description: Datasheet; ComponentLink2URL: https://www.we-online.com/catalog/datasheet/621306284521.pdf; Operating Temperature: -40 to +105degC; Published Date: May 2020; Pitch: 2mm; Mounting Technology: SMT; Packaging: Tape and Reel; Gender: Pin Header; Row Number: Dual; Orientation: Angled
footprint 621306284521
pins: 1, 2, 3, 4, 5, 6

## 621308245821
designator P?
WR-PHD Pin Header, SMT, pitch 2mm, Dual Row, Vertical, 8p; Manufacturer: Wurth Elektronik; Manufacturer Part Number: 621308245821; Pin Number: 8; Rated Current: 2A; Working Voltage: 200VAC; Withstanding Voltage: 500VAC; Contact Resistance: 20mOhm; ComponentLink1Description: Manufacturer; ComponentLink1URL: http://www.we-online.de; ComponentLink2Description: Datasheet; ComponentLink2URL: https://www.we-online.com/catalog/datasheet/621308245821.pdf; Operating Temperature: -40 to +105degC; Published Date: May 2020; Pitch: 2mm; Mounting Technology: SMT; Packaging: Tape and Reel; Gender: Pin Header; Row Number: Dual; Orientation: Vertical
footprint 621308245821
pins: 1, 2, 3, 4, 5, 6, 7, 8

## 621308284521
designator P?
WR-PHD Pin Header, SMT, pitch 2mm, Dual Row, Angled, 8p; Manufacturer: Wurth Elektronik; Manufacturer Part Number: 621308284521; Pin Number: 8; Rated Current: 2A; Working Voltage: 200VAC; Withstanding Voltage: 500VAC; Contact Resistance: 20mOhm; ComponentLink1Description: Manufacturer; ComponentLink1URL: http://www.we-online.de; ComponentLink2Description: Datasheet; ComponentLink2URL: https://www.we-online.com/catalog/datasheet/621308284521.pdf; Operating Temperature: -40 to +105degC; Published Date: May 2020; Pitch: 2mm; Mounting Technology: SMT; Packaging: Tape and Reel; Gender: Pin Header; Row Number: Dual; Orientation: Angled
footprint 621308284521
pins: 1, 2, 3, 4, 5, 6, 7, 8

## 621310245821
designator P?
WR-PHD Pin Header, SMT, pitch 2mm, Dual Row, Vertical, 10p; Manufacturer: Wurth Elektronik; Manufacturer Part Number: 621310245821; Pin Number: 10; Rated Current: 2A; Working Voltage: 200VAC; Withstanding Voltage: 500VAC; Contact Resistance: 20mOhm; ComponentLink1Description: Manufacturer; ComponentLink1URL: http://www.we-online.de; ComponentLink2Description: Datasheet; ComponentLink2URL: https://www.we-online.com/catalog/datasheet/621310245821.pdf; Operating Temperature: -40 to +105degC; Published Date: May 2020; Pitch: 2mm; Mounting Technology: SMT; Packaging: Tape and Reel; Gender: Pin Header; Row Number: Dual; Orientation: Vertical
footprint 621310245821
pins: 1, 2, 3, 4, 5, 6, 7, 8, 9, 10

## 621310284521
designator P?
WR-PHD Pin Header, SMT, pitch 2mm, Dual Row, Angled, 10p; Manufacturer: Wurth Elektronik; Manufacturer Part Number: 621310284521; Pin Number: 10; Rated Current: 2A; Working Voltage: 200VAC; Withstanding Voltage: 500VAC; Contact Resistance: 20mOhm; ComponentLink1Description: Manufacturer; ComponentLink1URL: http://www.we-online.de; ComponentLink2Description: Datasheet; ComponentLink2URL: https://www.we-online.com/catalog/datasheet/621310284521.pdf; Operating Temperature: -40 to +105degC; Published Date: May 2020; Pitch: 2mm; Mounting Technology: SMT; Packaging: Tape and Reel; Gender: Pin Header; Row Number: Dual; Orientation: Angled
footprint 621310284521
pins: 1, 2, 3, 4, 5, 6, 7, 8, 9, 10

## 621312284521
designator P?
WR-PHD Pin Header, SMT, pitch 2mm, Dual Row, Angled, 12p; Manufacturer: Wurth Elektronik; Manufacturer Part Number: 621312284521; Pin Number: 12; Rated Current: 2A; Working Voltage: 200VAC; Withstanding Voltage: 500VAC; Contact Resistance: 20mOhm; ComponentLink1Description: Manufacturer; ComponentLink1URL: http://www.we-online.de; ComponentLink2Description: Datasheet; ComponentLink2URL: https://www.we-online.com/catalog/datasheet/621312284521.pdf; Operating Temperature: -40 to +105degC; Published Date: May 2020; Pitch: 2mm; Mounting Technology: SMT; Packaging: Tape and Reel; Gender: Pin Header; Row Number: Dual; Orientation: Angled
footprint 621312284521
pins: 1, 2, 3, 4, 5, 6, 7, 8, 9, 10, 11, 12

## 621314245821
designator P?
WR-PHD Pin Header, SMT, pitch 2mm, Dual Row, Vertical, 14p; Manufacturer: Wurth Elektronik; Manufacturer Part Number: 621314245821; Pin Number: 14; Rated Current: 2A; Working Voltage: 200VAC; Withstanding Voltage: 500VAC; Contact Resistance: 20mOhm; ComponentLink1Description: Manufacturer; ComponentLink1URL: http://www.we-online.de; ComponentLink2Description: Datasheet; ComponentLink2URL: https://www.we-online.com/catalog/datasheet/621314245821.pdf; Operating Temperature: -40 to +105degC; Published Date: May 2020; Pitch: 2mm; Mounting Technology: SMT; Packaging: Tape and Reel; Gender: Pin Header; Row Number: Dual; Orientation: Vertical
footprint 621314245821
pins: 1, 2, 3, 4, 5, 6, 7, 8, 9, 10, 11, 12, 13, 14

## 621314284521
designator P?
WR-PHD Pin Header, SMT, pitch 2mm, Dual Row, Angled, 14p; Manufacturer: Wurth Elektronik; Manufacturer Part Number: 621314284521; Pin Number: 14; Rated Current: 2A; Working Voltage: 200VAC; Withstanding Voltage: 500VAC; Contact Resistance: 20mOhm; ComponentLink1Description: Manufacturer; ComponentLink1URL: http://www.we-online.de; ComponentLink2Description: Datasheet; ComponentLink2URL: https://www.we-online.com/catalog/datasheet/621314284521.pdf; Operating Temperature: -40 to +105degC; Published Date: May 2020; Pitch: 2mm; Mounting Technology: SMT; Packaging: Tape and Reel; Gender: Pin Header; Row Number: Dual; Orientation: Angled
footprint 621314284521
pins: 1, 2, 3, 4, 5, 6, 7, 8, 9, 10, 11, 12, 13, 14

## 621316245821
designator P?
WR-PHD Pin Header, SMT, pitch 2mm, Dual Row, Vertical, 16p; Manufacturer: Wurth Elektronik; Manufacturer Part Number: 621316245821; Pin Number: 16; Rated Current: 2A; Working Voltage: 200VAC; Withstanding Voltage: 500VAC; Contact Resistance: 20mOhm; ComponentLink1Description: Manufacturer; ComponentLink1URL: http://www.we-online.de; ComponentLink2Description: Datasheet; ComponentLink2URL: https://www.we-online.com/catalog/datasheet/621316245821.pdf; Operating Temperature: -40 to +105degC; Published Date: May 2020; Pitch: 2mm; Mounting Technology: SMT; Packaging: Tape and Reel; Gender: Pin Header; Row Number: Dual; Orientation: Vertical
footprint 621316245821
pins: 1, 2, 3, 4, 5, 6, 7, 8, 9, 10, 11, 12, 13, 14, 15, 16

## 621316284521
designator P?
WR-PHD Pin Header, SMT, pitch 2mm, Dual Row, Angled, 16p; Manufacturer: Wurth Elektronik; Manufacturer Part Number: 621316284521; Pin Number: 16; Rated Current: 2A; Working Voltage: 200VAC; Withstanding Voltage: 500VAC; Contact Resistance: 20mOhm; ComponentLink1Description: Manufacturer; ComponentLink1URL: http://www.we-online.de; ComponentLink2Description: Datasheet; ComponentLink2URL: https://www.we-online.com/catalog/datasheet/621316284521.pdf; Operating Temperature: -40 to +105degC; Published Date: May 2020; Pitch: 2mm; Mounting Technology: SMT; Packaging: Tape and Reel; Gender: Pin Header; Row Number: Dual; Orientation: Angled
footprint 621316284521
pins: 1, 2, 3, 4, 5, 6, 7, 8, 9, 10, 11, 12, 13, 14, 15, 16

## 621320245821
designator P?
WR-PHD Pin Header, SMT, pitch 2mm, Dual Row, Vertical, 20p; Manufacturer: Wurth Elektronik; Manufacturer Part Number: 621320245821; Pin Number: 20; Rated Current: 2A; Working Voltage: 200VAC; Withstanding Voltage: 500VAC; Contact Resistance: 20mOhm; ComponentLink1Description: Manufacturer; ComponentLink1URL: http://www.we-online.de; ComponentLink2Description: Datasheet; ComponentLink2URL: https://www.we-online.com/catalog/datasheet/621320245821.pdf; Operating Temperature: -40 to +105degC; Published Date: May 2020; Pitch: 2mm; Mounting Technology: SMT; Packaging: Tape and Reel; Gender: Pin Header; Row Number: Dual; Orientation: Vertical
footprint 621320245821
pins: 1, 2, 3, 4, 5, 6, 7, 8, 9, 10, 11, 12, 13, 14, 15, 16, 17, 18, 19, 20

## 621320284521
designator P?
WR-PHD Pin Header, SMT, pitch 2mm, Dual Row, Angled, 20p; Manufacturer: Wurth Elektronik; Manufacturer Part Number: 621320284521; Pin Number: 20; Rated Current: 2A; Working Voltage: 200VAC; Withstanding Voltage: 500VAC; Contact Resistance: 20mOhm; ComponentLink1Description: Manufacturer; ComponentLink1URL: http://www.we-online.de; ComponentLink2Description: Datasheet; ComponentLink2URL: https://www.we-online.com/catalog/datasheet/621320284521.pdf; Operating Temperature: -40 to +105degC; Published Date: May 2020; Pitch: 2mm; Mounting Technology: SMT; Packaging: Tape and Reel; Gender: Pin Header; Row Number: Dual; Orientation: Angled
footprint 621320284521
pins: 1, 2, 3, 4, 5, 6, 7, 8, 9, 10, 11, 12, 13, 14, 15, 16, 17, 18, 19, 20

## 621324245821
designator P?
WR-PHD Pin Header, SMT, pitch 2mm, Dual Row, Vertical, 24p; Manufacturer: Wurth Elektronik; Manufacturer Part Number: 621324245821; Pin Number: 24; Rated Current: 2A; Working Voltage: 200VAC; Withstanding Voltage: 500VAC; Contact Resistance: 20mOhm; ComponentLink1Description: Manufacturer; ComponentLink1URL: http://www.we-online.de; ComponentLink2Description: Datasheet; ComponentLink2URL: https://www.we-online.com/catalog/datasheet/621324245821.pdf; Operating Temperature: -40 to +105degC; Published Date: May 2020; Pitch: 2mm; Mounting Technology: SMT; Packaging: Tape and Reel; Gender: Pin Header; Row Number: Dual; Orientation: Vertical
footprint 621324245821
pins: 1, 2, 3, 4, 5, 6, 7, 8, 9, 10, 11, 12, 13, 14, 15, 16, 17, 18, 19, 20, 21, 22, 23, 24